# Altium footprint library QFN50P400X350X100_HS-17L.PcbLib: 1 footprints
Each footprint in its own frame and in the unit in brackets; x right, y up, seen from the top. Pads: shape width x height; smd on the part's side, far side on the other; paste and mask are expansions set on the pad; w line width, h text height; cw(c..) or ccw(c..) is an arc to the next point about the centre after c.
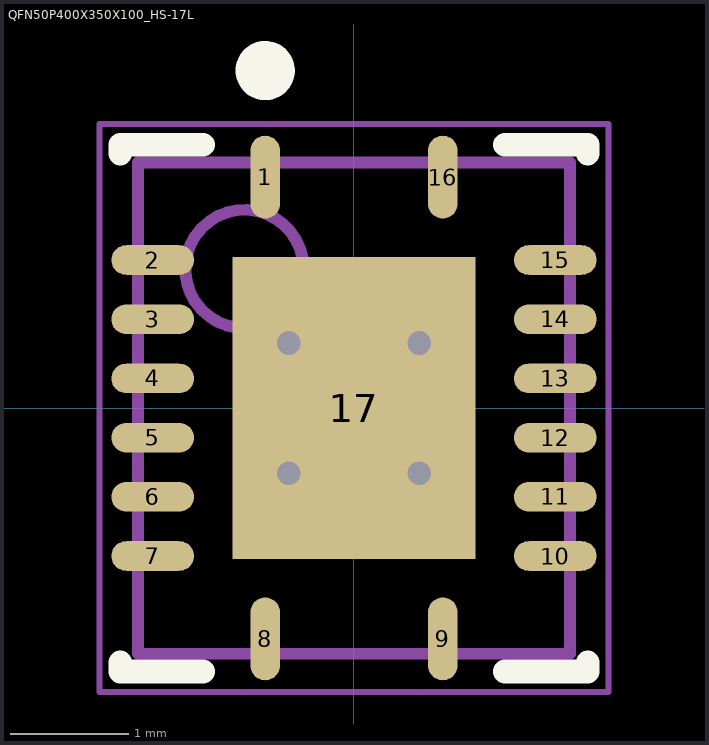
[diagram p0: the footprint, top view; thin cyan lines are the x and y axes]

## QFN50P400X350X100_HS-17L [mm] "QFN, 16-Leads, Body 4.00x3.50mm, Pitch 0.65mm/1.50mm, Thermal Pad 2.55x2.05mm, IPC High Density"
height 1
pads (17):
  oval 0.25x0.7 smd: 1(-0.75,1.95) 8(-0.75,-1.95) 9(0.75,-1.95) 16(0.75,1.95)
  oval 0.7x0.25 smd: 2(-1.7,1.25) 3(-1.7,0.75) 4(-1.7,0.25) 5(-1.7,-0.25) 6(-1.7,-0.75) 7(-1.7,-1.25) 10(1.7,-1.25) 11(1.7,-0.75) 12(1.7,-0.25) 13(1.7,0.25) 14(1.7,0.75) 15(1.7,1.25)
  rect 2.05x2.55 smd: 17(0,0)
via 0.55,-0.55 diameter 0.5 hole 0.2
via -0.55,-0.55 diameter 0.5 hole 0.2
via 0.55,0.55 diameter 0.5 hole 0.2
via -0.55,0.55 diameter 0.5 hole 0.2
Top Overlay:
  circle w0.25: c-0.75,2.85 r0.125
  lines w0.2: -1.975,-2.15 -1.975,-2.225 -1.275,-2.225 ; -1.975,2.15 -1.975,2.225 -1.275,2.225 ; 1.275,-2.225 1.975,-2.225 1.975,-2.15 ; 1.275,2.225 1.975,2.225 1.975,2.15
Mechanical 13:
  circle w0.1: c-0.925,1.175 r0.5
  lines w0.1: -1.825,-2.075 1.825,-2.075 1.825,2.075 -1.825,2.075 -1.825,-2.075
Mechanical 15:
  lines w0.05: -2.15,-2.4 2.15,-2.4 2.15,2.4 -2.15,2.4 -2.15,-2.4
  lines w0.1: -0.5,0 0.5,0 ; 0,-0.5 0,0.5
3D body: height 1.05, standoff 0, extent -1.801,-2.047 1.799,2.053